# EAGLE library part A3986 (library allegro2)
Dual Full-Bridge MOSFET Driver with Microstepping Translator
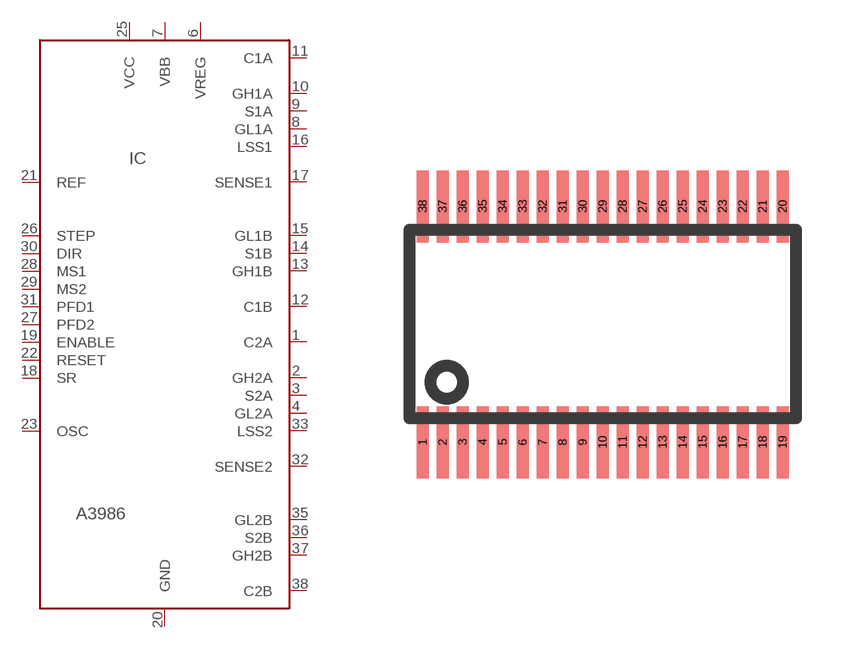
[diagram p0: symbol with the pads of TSSOP38; footprint TSSOP38]

Designator prefix IC

## A3986  [TSSOP38]
1  C2A  pas
2  GH2A  pas
3  S2A  pas
4  GL2A  pas
6  VREG  pas
7  VBB  pas
8  GL1A  pas
9  S1A  pas
10  GH1A  pas
11  C1A  pas
12  C1B  pas
13  GH1B  pas
14  S1B  pas
15  GL1B  pas
16  LSS1  pas
17  SENSE1  pas
18  SR  pas
19  ENABLE  pas
20  GND  pas
21  REF  pas
22  RESET  pas
23  OSC  pas
25  VCC  pas
26  STEP  pas
27  PFD2  pas
28  MS1  pas
29  MS2  pas
30  DIR  pas
31  PFD1  pas
32  SENSE2  pas
33  LSS2  pas
35  GL2B  pas
36  S2B  pas
37  GH2B  pas
38  C2B  pas

## Footprint TSSOP38 (pad centres in mm)
smd 0.3 x 1.8: 1 0,0; 2 0.5,0; 3 1,0; 4 1.5,0; 5 2,0; 6 2.5,0; 7 3,0; 8 3.5,0; 9 4,0; 10 4.5,0; 11 5,0; 12 5.5,0; 13 6,0; 14 6.5,0; 15 7,0; 16 7.5,0; 17 8,0; 18 8.5,0; 19 9,0; 20 9,5.9; 21 8.5,5.9; 22 8,5.9; 23 7.5,5.9; 24 7,5.9; 25 6.5,5.9; 26 6,5.9; 27 5.5,5.9; 28 5,5.9; 29 4.5,5.9; 30 4,5.9; 31 3.5,5.9; 32 3,5.9; 33 2.5,5.9; 34 2,5.9; 35 1.5,5.9; 36 1,5.9; 37 0.5,5.9; 38 0,5.9